# Altium footprint library SOT95P279X130-3N.PcbLib: 1 footprints
Each footprint in its own frame and in the unit in brackets; x right, y up, seen from the top. Pads: shape width x height; smd on the part's side, far side on the other; paste and mask are expansions set on the pad; w line width, h text height; cw(c..) or ccw(c..) is an arc to the next point about the centre after c.
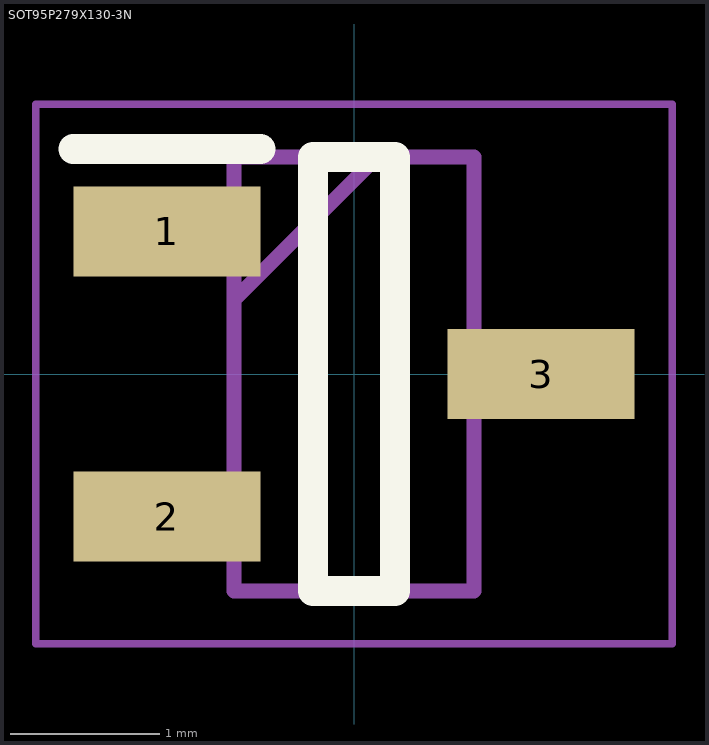
[diagram p0: the footprint, top view; thin cyan lines are the x and y axes]

## SOT95P279X130-3N [mm]
pads (3):
  rect 1.25x0.6 smd: 1(-1.25,0.952) 2(-1.25,-0.952) 3(1.25,0)
Top Overlay:
  lines w0.2: -1.875,1.502 -0.625,1.502 ; -0.275,-1.448 -0.275,1.448 0.275,1.448 0.275,-1.448 -0.275,-1.448
Mechanical 15:
  lines w0.1: -0.8,0.496 0.152,1.448 ; -0.8,-1.448 -0.8,1.448 0.8,1.448 0.8,-1.448 -0.8,-1.448
Mechanical 20:
  lines w0.05: -2.125,-1.8 -2.125,1.8 2.125,1.8 2.125,-1.8 -2.125,-1.8
3D body "RT9742SNGV.stp": height 1.3, standoff 0, extent -1.397,-1.448 1.397,1.448